# EAGLE library part LINEAR-LTC3110EUF (library ClintonLib)
Linear LTC3110 Supercapacitor Buck-Boost Holdup/Backup Regulator 2A, 0.1V-5.5V Cap, 1.71V-5.25V Sys Datasheet <http://cds.linear.com/docs/en/datasheet/3110fb.pdf> Digikey <https://www.digikey.com/product-detail/en/linear-technology/LTC3110EUF-PBF/LTC3110EUF-PBF-ND/5321488>
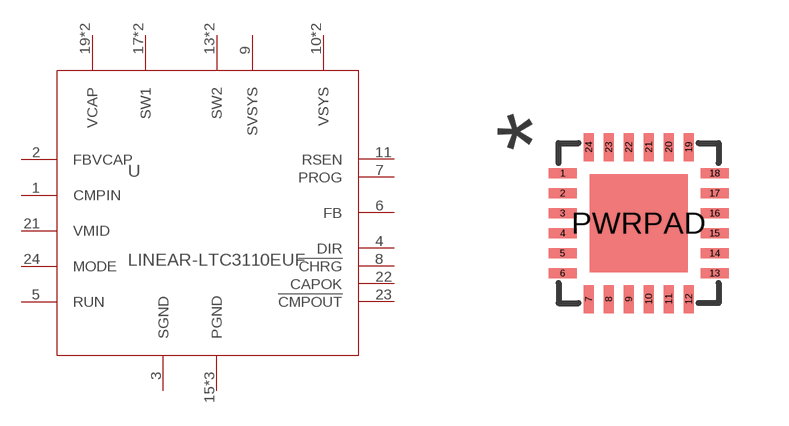
[diagram p14: symbol with the pads of LINEAR-LTC3110EUF; footprint LINEAR-LTC3110EUF]

Designator prefix -

## LINEAR-LTC3110EUF  [LINEAR-LTC3110EUF]
1  CMPIN
2  FBVCAP
3  SGND
4  DIR
5  RUN
6  FB
7  PROG
8  !CHRG
9  SVSYS
10  VSYS
11  RSEN
12  VSYS
13  SW2
14  SW2
15  PGND
16  PGND
17  SW1
18  SW1
19  VCAP
20  VCAP
21  VMID
22  CAPOK
23  !CMPOUT
24  MODE
PWRPAD  PGND

## Footprint LINEAR-LTC3110EUF (pad centres in mm)
smd 0.7 x 0.25: 1 -1.9,1.25; 2 -1.9,0.75; 3 -1.9,0.25; 4 -1.9,-0.25; 5 -1.9,-0.75; 6 -1.9,-1.25; 13 1.9,-1.25; 14 1.9,-0.75; 15 1.9,-0.25; 16 1.9,0.25; 17 1.9,0.75; 18 1.9,1.25
smd 0.25 x 0.7: 7 -1.25,-1.9; 8 -0.75,-1.9; 9 -0.25,-1.9; 10 0.25,-1.9; 11 0.75,-1.9; 12 1.25,-1.9; 19 1.25,1.9; 20 0.75,1.9; 21 0.25,1.9; 22 -0.25,1.9; 23 -0.75,1.9; 24 -1.25,1.9
smd 2.45 x 2.45: PWRPAD 0,0